# EAGLE library part HDR8_156 (library wheat)
HEADER, 8-PIN .156 CENTERS MISSING PIN 6 AMP 640445-8
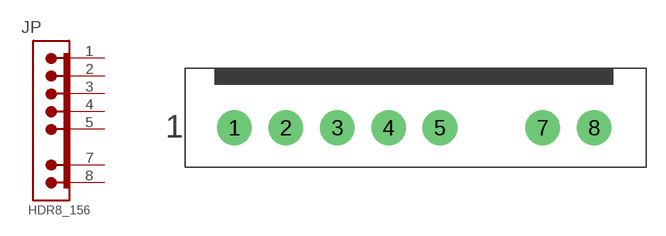
[diagram p80: symbol with the pads of HDR8_156; footprint HDR8_156]

Designator prefix JP

## HDR8_156  [HDR8_156]
1  1  pas
2  2  pas
3  3  pas
4  4  pas
5  5  pas
7  7  pas
8  8  pas

## Footprint HDR8_156 (pad centres in mm)
HEADER, .156 CENTERS, 8 PINS MISSING PIN 6 AMP 640445-8
drill 1.778: 1 0,0; 2 3.962,0; 3 7.925,0; 4 11.887,0; 5 15.85,0; 7 23.774,0; 8 27.737,0